# Altium footprint library tyco-d-sub.PcbLib: 1 footprints
Each footprint in its own frame and in the unit in brackets; x right, y up, seen from the top. Pads: shape width x height; smd on the part's side, far side on the other; paste and mask are expansions set on the pad; w line width, h text height; cw(c..) or ccw(c..) is an arc to the next point about the centre after c.
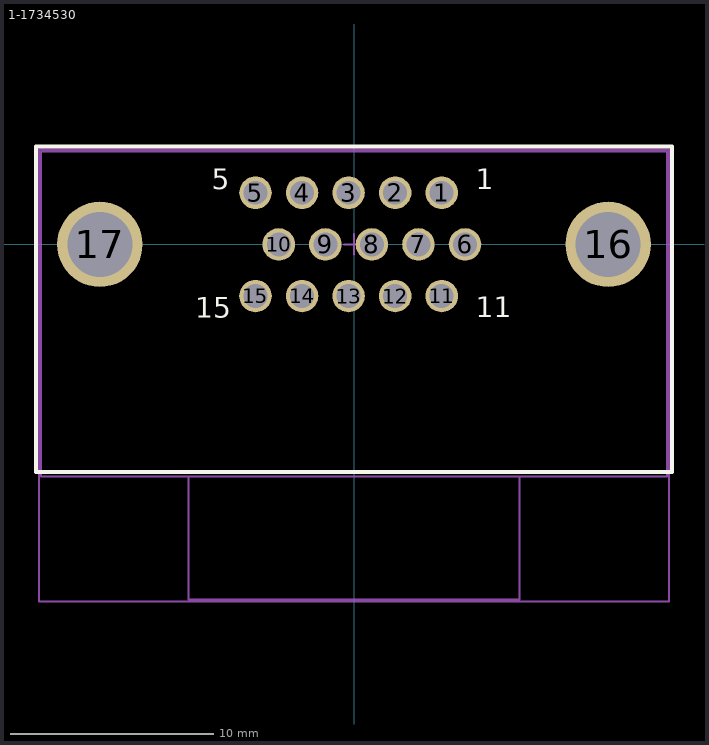
[diagram p0: the footprint, top view; thin cyan lines are the x and y axes]

## 1-1734530 [mm] "Receptacle Assy, Size 1, 15 Position, Right Angle, Trough Hole"
height 12.5
pads (17):
  round 1.6 / inner round 1.4 / far side round 1.6 hole 1.18: 1(4.315,2.54) 2(2.025,2.54) 3(-0.265,2.54) 4(-2.555,2.54) 5(-4.845,2.54) 6(5.46,0) 7(3.17,0) 8(0.88,0) 9(-1.41,0) 10(-3.7,0) 11(4.315,-2.54) 12(2.025,-2.54) 13(-0.265,-2.54) 14(-2.555,-2.54) 15(-4.845,-2.54)
  round 4.2 / inner round 3.8 / far side round 4.2 hole 3.2 paste+0: 16(12.5,0) 17(-12.5,0)
Top Overlay:
  lines w0.2: -15.65,-11.2 -15.65,4.825 15.65,4.825 15.65,-11.2 -15.65,-11.2
  text "5" at -7,2.7 h1
  text "1" at 6,2.7 h1
  text "11" at 6,-3.58 h1
  text "15" at -7.8,-3.6 h1
Mechanical 13:
  lines w0.1: -13.19,0.04 -11.79,0.04 ; -12.49,-0.66 -12.49,0.74 ; -8.15,-11.425 -8.15,-17.475 8.15,-17.475 8.15,-11.425 ; -0.5,0 0.5,0 ; 0,-0.5 0,0.5 ; 11.79,0.04 13.19,0.04 ; 12.49,-0.66 12.49,0.74 ; -15.4,-11.425 -15.4,4.575 15.4,4.575 15.4,-11.425 -15.4,-11.425
Mechanical 15:
  lines w0.1: -15.5,-17.575 -15.5,4.675 15.5,4.675 15.5,-17.575 -15.5,-17.575
  text ".Designator" at 2.3,-1.475 h0.5
3D body: height 12.52, standoff -4.08, extent -15.475,-17.475 15.475,4.575